# EAGLE library part FPC-32WAY (library pimoroni-fpc)
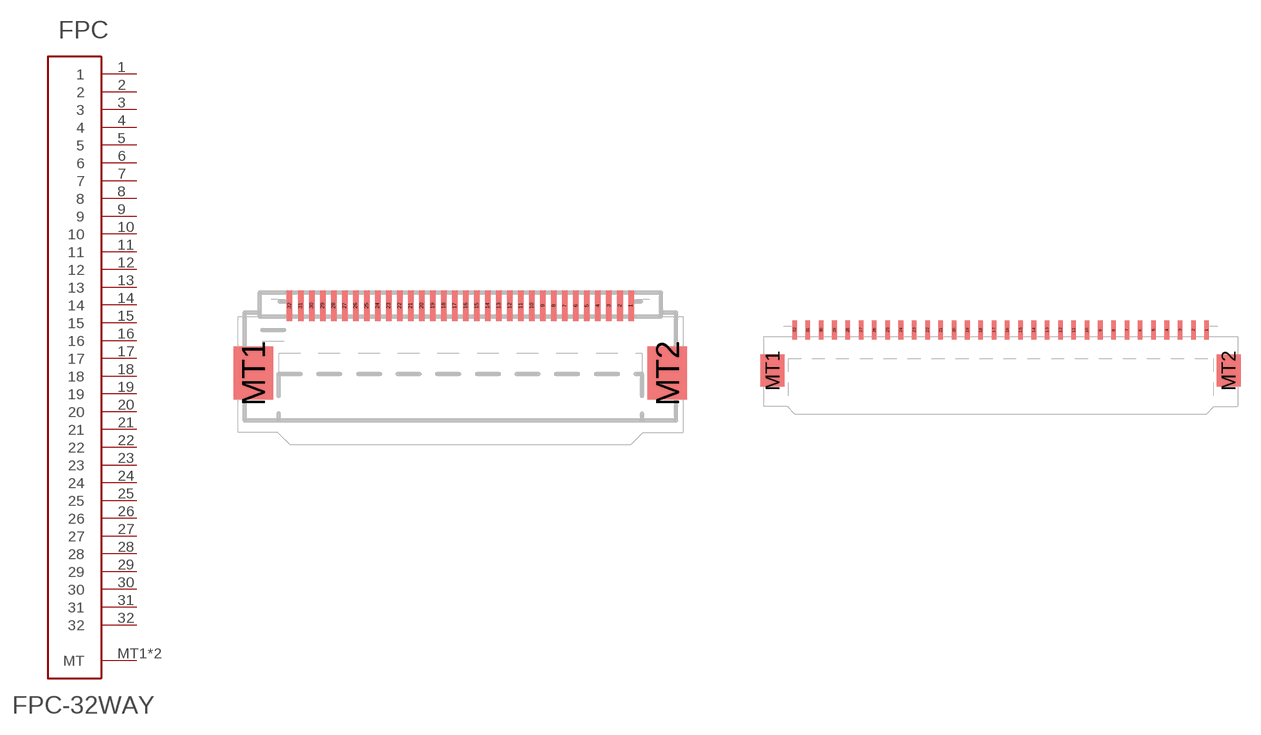
[diagram p27: symbol with the pads of FPC-0.5MM-32WAY; footprints FPC-0.5MM-32WAY, FPC-1.0MM-32WAY]

Designator prefix FPC

## FPC-32WAY0.5  [FPC-0.5MM-32WAY]
1  1
2  2
3  3
4  4
5  5
6  6
7  7
8  8
9  9
10  10
11  11
12  12
13  13
14  14
15  15
16  16
17  17
18  18
19  19
20  20
21  21
22  22
23  23
24  24
25  25
26  26
27  27
28  28
29  29
30  30
31  31
32  32
MT1  MT
MT2  MT

## FPC-32WAY1.0  [FPC-1.0MM-32WAY]
Pads as for FPC-0.5MM-32WAY

## Footprint FPC-0.5MM-32WAY (pad centres in mm)
smd 0.25 x 1.4: 1 7.75,0.7; 2 7.25,0.7; 3 6.75,0.7; 4 6.25,0.7; 5 5.75,0.7; 6 5.25,0.7; 7 4.75,0.7; 8 4.25,0.7; 9 3.75,0.7; 10 3.25,0.7; 11 2.75,0.7; 12 2.25,0.7; 13 1.75,0.7; 14 1.25,0.7; 15 0.75,0.7; 16 0.25,0.7; 17 -0.25,0.7; 18 -0.75,0.7; 19 -1.25,0.7; 20 -1.75,0.7; 21 -2.25,0.7; 22 -2.75,0.7; 23 -3.25,0.7; 24 -3.75,0.7; 25 -4.25,0.7; 26 -4.75,0.7; 27 -5.25,0.7; 28 -5.75,0.7; 29 -6.25,0.7; 30 -6.75,0.7; 31 -7.25,0.7; 32 -7.75,0.7
smd 1.8 x 2.4: MT1 -9.4,-2.35; MT2 9.4,-2.35

## Footprint FPC-1.0MM-32WAY (pad centres in mm)
smd 0.35 x 1.4: 1 15.5,0.7; 2 14.5,0.7; 3 13.5,0.7; 4 12.5,0.7; 5 11.5,0.7; 6 10.5,0.7; 7 9.5,0.7; 8 8.5,0.7; 9 7.5,0.7; 10 6.5,0.7; 11 5.5,0.7; 12 4.5,0.7; 13 3.5,0.7; 14 2.5,0.7; 15 1.5,0.7; 16 0.5,0.7; 17 -0.5,0.7; 18 -1.5,0.7; 19 -2.5,0.7; 20 -3.5,0.7; 21 -4.5,0.7; 22 -5.5,0.7; 23 -6.5,0.7; 24 -7.5,0.7; 25 -8.5,0.7; 26 -9.5,0.7; 27 -10.5,0.7; 28 -11.5,0.7; 29 -12.5,0.7; 30 -13.5,0.7; 31 -14.5,0.7; 32 -15.5,0.7
smd 1.8 x 2.4: MT1 -17.15,-2.35; MT2 17.15,-2.35